# Altium footprint library HomeAutomation.PcbLib: 19 footprints (part 2 of 2)
Each footprint in its own frame and in the unit in brackets; x right, y up, seen from the top. Pads: shape width x height; smd on the part's side, far side on the other; paste and mask are expansions set on the pad; w line width, h text height; cw(c..) or ccw(c..) is an arc to the next point about the centre after c.
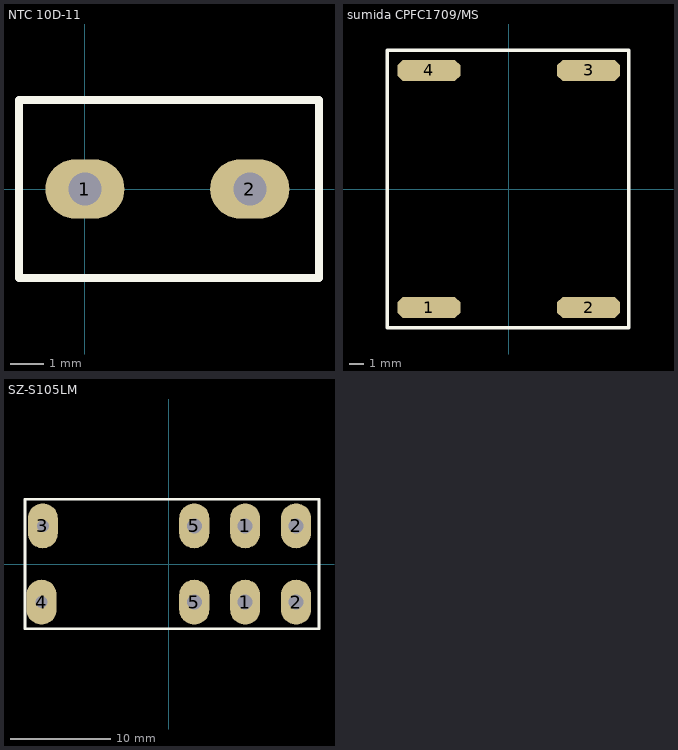
[diagram p1: the footprints below, top view; thin cyan lines are the x and y axes]

## NTC 10D-11 [mm] "NTC 10D-11"
height 12
pads (2):
  oval 2.4x1.8 hole 1: 1(0,0) 2(5,0)
Top Overlay:
  lines w0.254: -2,-2.7 7.1,-2.7 7.1,2.7 -2,2.7 -2,-2.7

## sumida CPFC1709/MS [mm]
height 9.91
pads (4):
  oct 4.45x1.5 smd: 1(-5.65,-8.38) 2(5.65,-8.38) 3(5.65,8.38) 4(-5.65,8.38)
Top Overlay:
  lines w0.254: -8.6,-9.8 -8.6,9.8 8.5,9.8 8.5,-9.8 -8.5,-9.8
3D body: height 9.91, standoff 0, extent -8.7,-9.9 8.6,10

## SZ-S105LM [mm] "5V control 250V AC 16A"
height 20.6
pads (8):
  oval 3x4.5 hole 1.5: 1(7.62,-3.81) 1(7.62,3.81) 2(12.7,-3.81) 2(12.7,3.81) 5(2.54,-3.81) 5(2.54,3.81)
  oval 3x4.5 hole 1.2: 3(-12.573,3.81) 4(-12.7,-3.81)
Top Overlay:
  lines w0.254: -14.351,-6.477 -14.351,-3.81 -14.351,3.81 -14.351,6.477 14.986,6.477 14.986,-5.588 14.986,-6.477 -14.351,-6.477
3D body: height 20.6, standoff 0.1, extent -14.224,-6.35 14.859,6.35